# Altium footprint library PCB library TUSB8041 BRICE R1.PcbLib: 28 footprints (part 1 of 2)
Each footprint in its own frame and in the unit in brackets; x right, y up, seen from the top. Pads: shape width x height; smd on the part's side, far side on the other; paste and mask are expansions set on the pad; w line width, h text height; cw(c..) or ccw(c..) is an arc to the next point about the centre after c.
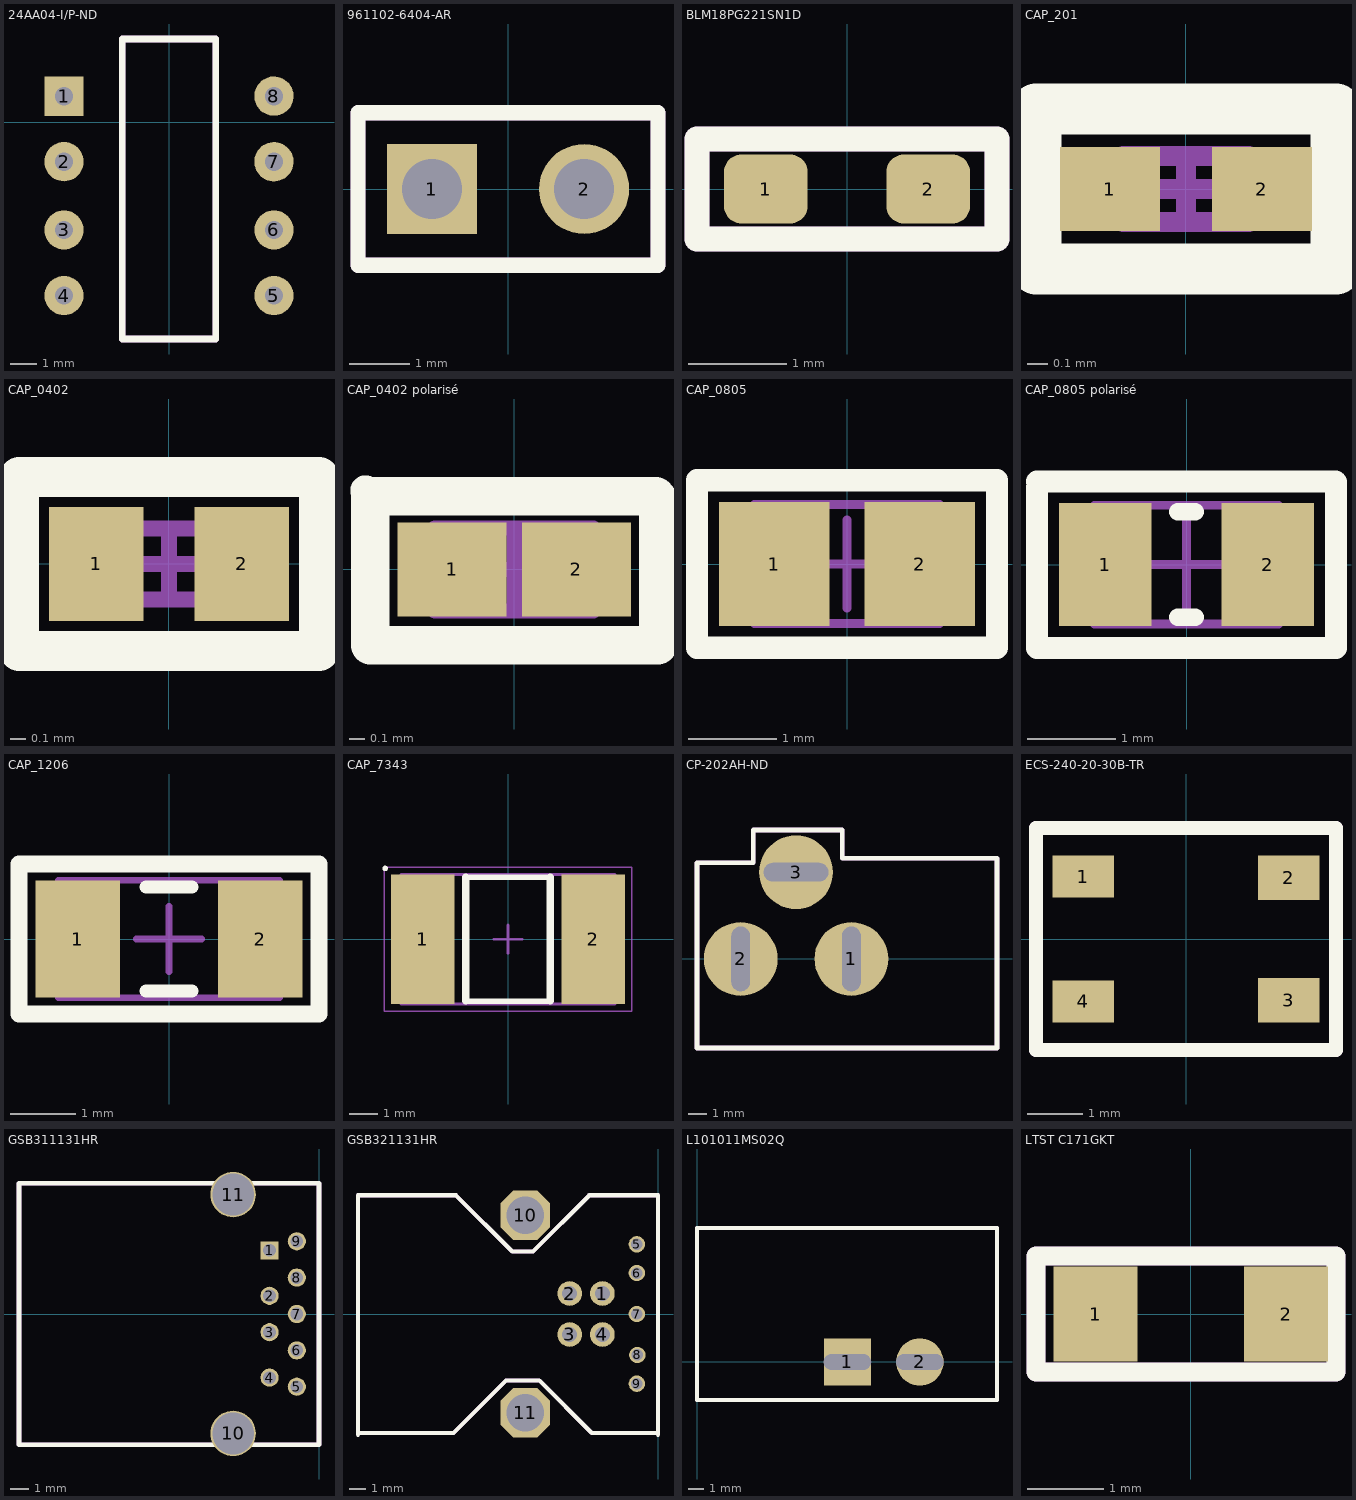
[diagram p0: the footprints below, top view; thin cyan lines are the x and y axes]

## 24AA04-I/P-ND [mm]
pads (8):
  rect 1.5x1.5 hole 0.7 unplated: 1(-4,1)
  round 1.5 hole 0.7: 2(-4,-1.5) 3(-4,-4.1) 4(-4,-6.6) 5(4,-6.6) 6(4,-4.1) 7(4,-1.5) 8(4,1)
Top Overlay:
  lines w0.254: -1.778,-8.255 -1.778,3.175 1.778,3.175 1.778,-8.255 -1.778,-8.255
Top Assembly:
  lines w0.254: -1.778,3.175 1.778,3.175 ; -1.778,3.175 -1.778,-8.255 1.778,-8.255 1.778,3.175 ; -1.778,3.175 1.778,3.175
Top Designator:
  text ".Designator" at -7.596,-3.048 h1.52
3D body "PDIP8_300MC_MCH.step": height 5.46, standoff -2.54, extent -4.064,-7.874 4.064,2.286

## 961102-6404-AR [mm]
pads (2):
  rect 1.5x1.5 hole 1: 1(-1.27,0)
  round 1.5 hole 1: 2(1.27,0)
Top Overlay:
  lines w0.254: -2.5,-1.27 2.5,-1.27 2.5,1.27 -2.5,1.27 -2.5,-1.27
Top Assembly:
  lines w0.254: -2.5,-1.27 2.5,-1.27 2.5,1.27 -2.5,1.27 -2.5,-1.27
Top Designator:
  text ".Designator" at -7.618,-0.508 h1.52
3D body "CONN_961102-6404-AR_3MM.step": height 8.2, standoff -5.08, extent -2.54,-1.295 2.54,1.295

## BLM18PG221SN1D [mm]
pads (2):
  rrect50% 0.85x0.7 smd: 1(-0.825,0) 2(0.825,0)
Top Overlay:
  lines w0.254: -1.524,-0.508 -1.524,0.508 1.524,0.508 1.524,-0.508 -1.524,-0.508
Top Assembly:
  lines w0.254: -1.524,-0.508 -1.524,0.508 1.524,0.508 1.524,-0.508 -1.524,-0.508
Top Designator:
  text ".Designator" at -7.618,-0.508 h1.52
3D body "IND_BLM18_0603_MUR.step": height 0.94, standoff 0, extent -0.876,-0.47 0.876,0.47

## CAP_201 [mm] "Chip Capacitor, 2-Leads, Body 0,60x0,30mm, IPC Medium Density"
height 0.33
pads (2):
  rect 0.5x0.42 smd: 1(-0.38,0) 2(0.38,0)
Top Overlay:
  lines w0.254: -0.75,-0.4 0.75,-0.4 0.75,0.4 -0.75,0.4 -0.75,-0.4
Top Assembly:
  lines w0.1: -0.315,-0.165 0.315,-0.165 ; -0.315,0.165 0.315,0.165
Top Designator:
  text ".Designator" at -7.618,-0.508 h1.52
Mechanical 13:
  lines w0.1: -0.315,-0.165 -0.315,0.165 ; 0.315,-0.165 0.315,0.165
Mechanical 15:
  lines w0.05: -0.75,-0.4 0.75,-0.4 0.75,0.4 -0.75,0.4 -0.75,-0.4
  lines w0.1: -0.165,0 0.165,0 ; 0,-0.165 0,0.165
3D body "CAP_201.step": height 0.33, standoff 0, extent -0.315,-0.165 0.315,0.165

## CAP_0402 [mm] "Chip Capacitor, 2-Leads, Body 1,00x0,50mm, IPC Medium Density"
height 0.4
pads (2):
  rect 0.6x0.72 smd: 1(-0.46,0) 2(0.46,0)
Top Overlay:
  lines w0.254: -0.95,-0.55 0.95,-0.55 0.95,0.55 -0.95,0.55 -0.95,-0.55
Top Assembly:
  lines w0.1: -0.525,-0.225 0.525,-0.225 ; -0.525,0.225 0.525,0.225
Top Designator:
  text ".Designator" at -7.618,-0.508 h1.52
Mechanical 13:
  lines w0.1: -0.525,-0.225 -0.525,0.225 ; 0.525,-0.225 0.525,0.225
Mechanical 15:
  lines w0.05: -0.95,-0.55 -0.95,0.55 0.95,0.55 0.95,-0.55 -0.95,-0.55
  lines w0.1: -0.225,0 0.225,0 ; 0,-0.225 0,0.225
3D body "CAP_0402.step": height 0.4, standoff 0, extent -0.525,-0.225 0.525,0.225

## CAP_0402 polarisé [mm] "Chip Capacitor, 2-Leads, Body 1,00x0,50mm, IPC Medium Density"
height 0.55
pads (2):
  rect 0.72x0.62 smd: 1(-0.41,0) 2(0.41,0)
Top Overlay:
  circle w0.1: c-0.982,0.522 r0.05
  lines w0.254: -0.95,-0.5 -0.95,0.484 0.934,0.484 0.95,0.468 0.95,-0.5 -0.95,-0.5
Top Assembly:
  lines w0.1: -0.525,-0.275 0.525,-0.275 ; -0.525,0.275 0.525,0.275
Top Designator:
  text ".Designator" at -7.671,-0.459 h1.52
Mechanical 13:
  lines w0.1: -0.525,-0.275 -0.525,0.275 ; 0.525,-0.275 0.525,0.275
Mechanical 15:
  lines w0.05: -0.95,-0.5 0.95,-0.5 0.95,0.5 -0.95,0.5 -0.95,-0.5
  lines w0.1: -0.275,0 0.275,0 ; 0,-0.275 0,0.275
3D body: height 0.55, standoff 0, extent 0.175,-0.275 0.525,0.275
3D body: height 0.55, standoff 0, extent -0.525,-0.275 -0.175,0.275
3D body: height 0.55, standoff 0, extent -0.175,-0.275 0.175,0.275

## CAP_0805 [mm] "Chip Capacitor, 2-Leads, Body 2,00x1,25mm, IPC Medium Density"
height 1.35
pads (2):
  rect 1.25x1.4 smd: 1(-0.825,0) 2(0.825,0)
Top Overlay:
  lines w0.254: -1.7,-0.95 -1.7,0.95 1.7,0.95 1.7,-0.95 -1.7,-0.95
Top Assembly:
  lines w0.1: -1.05,-0.675 1.05,-0.675 ; -1.05,0.675 1.05,0.675
Top Designator:
  text ".Designator" at -7.618,-0.508 h1.52
Mechanical 13:
  lines w0.1: -1.05,-0.675 -1.05,0.675 ; 1.05,-0.675 1.05,0.675
Mechanical 15:
  lines w0.05: -1.7,-0.95 1.7,-0.95 1.7,0.95 -1.7,0.95 -1.7,-0.95
  lines w0.1: -0.5,0 0.5,0 ; 0,-0.5 0,0.5
3D body "CAP_0805.step": height 1.35, standoff 0, extent -1.05,-0.675 1.05,0.675

## CAP_0805 polarisé [mm] "Chip Capacitor, 2-Leads, Body 2,00x1,25mm, IPC Medium Density"
height 0.6
pads (2):
  rect 1.05x1.4 smd: 1(-0.925,0) 2(0.925,0)
Top Overlay:
  circle w0.1: c-1.662,0.912 r0.05
  lines w0.2: -0.1,-0.6 0.1,-0.6 ; -0.1,0.6 0.1,0.6
  lines w0.254: -1.7,0.879 -1.7,-0.95 1.7,-0.95 1.7,0.94 1.695,0.945 -1.7,0.945
Top Assembly:
  lines w0.1: -1.05,-0.675 1.05,-0.675 ; -1.05,0.675 1.05,0.675
Top Designator:
  text ".Designator" at -7.636,-0.489 h1.52
Mechanical 13:
  lines w0.1: -1.05,-0.675 -1.05,0.675 ; 1.05,-0.675 1.05,0.675
Mechanical 15:
  lines w0.05: -1.7,-0.95 1.7,-0.95 1.7,0.95 -1.7,0.95 -1.7,-0.95
  lines w0.1: -0.5,0 0.5,0 ; 0,-0.5 0,0.5
3D body: height 0.6, standoff 0, extent 0.7,-0.675 1.05,0.675
3D body: height 0.6, standoff 0, extent -1.05,-0.675 -0.7,0.675
3D body: height 0.6, standoff 0, extent -0.7,-0.675 0.7,0.675

## CAP_1206 [mm] "Chip Capacitor, 2-Leads, Body 3,20x1,60mm, IPC Medium Density"
height 0.5
pads (2):
  rect 1.3x1.8 smd: 1(-1.4,0) 2(1.4,0)
Top Overlay:
  lines w0.2: -0.35,-0.8 0.35,-0.8 ; -0.35,0.8 0.35,0.8
  lines w0.254: -2.3,-1.15 -2.3,1.15 2.3,1.15 2.3,-1.15 -2.3,-1.15
Top Assembly:
  lines w0.1: -1.7,-0.9 1.7,-0.9 ; -1.7,0.9 1.7,0.9
Top Designator:
  text ".Designator" at -7.618,-0.508 h1.52
Mechanical 13:
  lines w0.1: -1.7,-0.9 -1.7,0.9 ; 1.7,-0.9 1.7,0.9
Mechanical 15:
  lines w0.05: -2.3,-1.15 2.3,-1.15 2.3,1.15 -2.3,1.15 -2.3,-1.15
  lines w0.1: -0.5,0 0.5,0 ; 0,-0.5 0,0.5
3D body: height 0.5, standoff 0, extent 1.2,-0.9 1.7,0.9
3D body: height 0.5, standoff 0, extent -1.7,-0.9 -1.2,0.9
3D body: height 0.5, standoff 0, extent -1.2,-0.9 1.2,0.9

## CAP_7343 [mm] "Chip Capacitor, 2-Leads, Body 7,30x4,30mm, IPC Medium Density"
height 4.3
pads (2):
  rect 2.25x4.6 smd: 1(-3.025,0) 2(3.025,0)
Top Overlay:
  circle w0.1: c-4.362,2.512 r0.05
  lines w0.2: -1.5,-2.2 1.5,-2.2 ; -1.5,2.2 1.5,2.2
  lines w0.254: -1.5,-2.2 -1.5,2.2 ; 1.5,-2.2 1.5,2.2
Top Assembly:
  lines w0.1: -3.8,-2.3 3.8,-2.3 ; -3.8,2.3 3.8,2.3
Top Designator:
  text ".Designator" at -7.636,-0.489 h1.52
Mechanical 13:
  lines w0.1: -3.8,-2.3 -3.8,2.3 ; 3.8,-2.3 3.8,2.3
Mechanical 15:
  lines w0.05: -4.4,-2.55 4.4,-2.55 4.4,2.55 -4.4,2.55 -4.4,-2.55
  lines w0.1: -0.5,0 0.5,0 ; 0,-0.5 0,0.5
3D body "CAP_7343.step": height 4.3, standoff 0, extent -3.8,-2.3 3.8,2.3

## CP-202AH-ND [mm]
pads (3):
  round 4 hole 1 slot 3.5 at 90 deg: 1(13.7,0) 2(7.7,0)
  round 4 hole 1 slot 3.5 at 0 deg: 3(10.7,4.7)
Top Overlay:
  lines w0.254: 5.334,-4.826 5.334,5.207 8.382,5.207 8.382,6.985 13.208,6.985 13.208,5.461 21.59,5.461 21.59,-2.032 21.59,-4.826 5.334,-4.826
Top Assembly:
  lines w0.254: 5.334,-4.826 5.334,5.207 8.382,5.207 8.382,6.985 13.208,6.985 13.208,5.461 15.748,5.461 21.59,5.461 21.59,-4.826 15.748,-4.826 5.334,-4.826
Top Designator:
  text ".Designator" at 0.51,0.572 h1.52
3D body "CUI_DEVICES_PJ-202AH.step": height 11, standoff -3.5, extent 6.85,-4.32 21.25,5.08

## ECS-240-20-30B-TR [mm]
pads (4):
  rect 1.1x0.75 smd: 1(-1.85,1.125) 4(-1.85,-1.125)
  rect 1.1x0.8 smd: 2(1.85,1.1) 3(1.85,-1.1)
Top Overlay:
  lines w0.254: -2.7,-2 -2.7,2 2.7,2 2.7,-2 -2.7,-2
Top Assembly:
  lines w0.254: -2.7,-2 2.7,-2 2.7,2 -2.7,2 -2.7,-2
Top Designator:
  text ".Designator" at -7.618,-0.508 h1.52
3D body "ECS-240-20-30B-AEN-TR.stp": height 0.95, standoff 0, extent -2.525,-1.6 2.525,1.6

## GSB311131HR [mm]
pads (11):
  rect 1x1 hole 0.7: 1(-2.72,3.5)
  round 1 hole 0.7: 2(-2.72,1) 3(-2.72,-1) 4(-2.72,-3.5) 5(-1.22,-4) 6(-1.22,-2) 7(-1.22,0) 8(-1.22,2) 9(-1.22,4)
  round 2.5 hole 2.3: 10(-4.72,-6.57) 11(-4.72,6.57)
Top Overlay:
  lines w0.254: -16.5,-7.2 -16.5,7.2 0,7.2 0,-7.2 -16.5,-7.2
Top Assembly:
  lines w0.254: -16.5,-7.2 -16.5,7.2 0,7.2 0,-7.2 -16.5,-7.2
Top Designator:
  text ".Designator" at -15.868,-0.508 h1.52
3D body "GSB311131HR.step": height 7.61, standoff -3.23, extent -16.5,-7.906 0,7.906

## GSB321131HR [mm]
pads (11):
  round 1.5 hole 0.92: 1(-3.39,1.25) 2(-5.39,1.25) 3(-5.39,-1.25) 4(-3.39,-1.25)
  round 1 hole 0.7: 5(-1.29,4.25) 6(-1.29,2.5) 7(-1.29,0) 8(-1.26,-2.5) 9(-1.29,-4.25)
  oct 3x3 hole 2.3: 10(-8.1,6.02) 11(-8.1,-6.02)
Top Overlay:
  lines w0.254: -18.3,-7.366 -18.3,7.239 -12.319,7.239 -8.89,3.81 -7.62,3.81 -4.191,7.239 0,7.239 0,-7.366 ; -18.3,-7.26 -12.467,-7.26 -9.271,-4.064 -7.239,-4.064 -4.043,-7.26 0,-7.26
Top Assembly:
  lines w0.254: -18.3,-7.26 -18.3,7.239 -12.319,7.239 -8.89,3.81 -7.62,3.81 -4.191,7.239 0,7.239 0,-7.26 -4.043,-7.26 -7.239,-4.064 -9.271,-4.064 -12.467,-7.26 -18.3,-7.26
Top Designator:
  text ".Designator" at -16.761,-0.508 h1.52
3D body "GSB321131HR.stp": height 12.95, standoff -3.29, extent -18.384,-7.176 0.14,7.176

## L101011MS02Q [mm]
pads (2):
  rect 3x3 hole 1 slot 3 at 0 deg: 1(9.55,0)
  round 3 hole 1 slot 3 at 0 deg: 2(14.15,0)
Top Overlay:
  lines w0.254: 0,-2.413 0,8.509 19.05,8.509 19.05,-2.413 0,-2.413
Top Assembly:
  lines w0.254: 19.05,8.509 19.05,-2.413 0,-2.413 0,8.509 19.05,8.509 ; 19.05,8.509 19.05,8.509
Top Designator:
  text ".Designator" at 1.907,2.54 h1.52
3D body "L101011MS02Q.stp": height 12.6, standoff -5.41, extent 0,-2.398 19.1,8.397

## LTST C171GKT [mm]
pads (2):
  rect 1.1x1.25 smd: 1(-1.25,0) 2(1.25,0)
Top Overlay:
  lines w0.254: -2.032,-0.762 1.905,-0.762 1.905,0.762 -2.032,0.762 -2.032,-0.762
Top Assembly:
  lines w0.254: -2.032,-0.762 -2.032,0.762 1.905,0.762 1.905,-0.762 -2.032,-0.762
Top Designator:
  text ".Designator" at -7.681,-0.508 h1.52
3D body "LTST-C171GKT.stp": height 0.8, standoff 0, extent -1,-0.625 1,0.625